# EAGLE library part IMU-LSM (library custom)
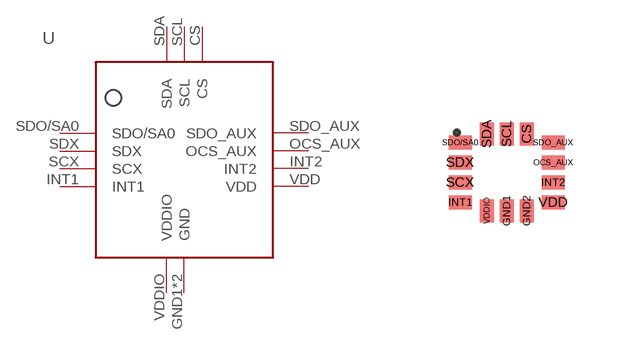
[diagram p0: symbol with the pads of LSM6DS0; footprint LSM6DS0]

Designator prefix U

## IMU-LSM (CREATOR: James Han; DIST: Digikey; DISTPN: 497-18367-1-ND)  [LSM6DS0]
CS  CS
GND1  GND
GND2  GND
INT1  INT1
INT2  INT2
OCS_AUX  OCS_AUX
SCL  SCL
SCX  SCX
SDA  SDA
SDO/SA0  SDO/SA0
SDO_AUX  SDO_AUX
SDX  SDX
VDD  VDD
VDDIO  VDDIO

## Footprint LSM6DS0 (pad centres in mm)
smd 0.35 x 0.575: CS 0.5,0.963; GND1 0,-0.963; GND2 0.5,-0.963; SCL 0,0.963; SDA -0.5,0.963; VDDIO -0.5,-0.963
smd 0.575 x 0.35: INT1 -1.163,-0.75; INT2 1.163,-0.25; OCS_AUX 1.163,0.25; SCX -1.163,-0.25; SDO/SA0 -1.163,0.75; SDO_AUX 1.163,0.75; SDX -1.163,0.25; VDD 1.163,-0.75